# EAGLE library part DIP-BLACK-FEMALE-HEADER(2X5P-2.54) (library OPL-Connector)
320030088
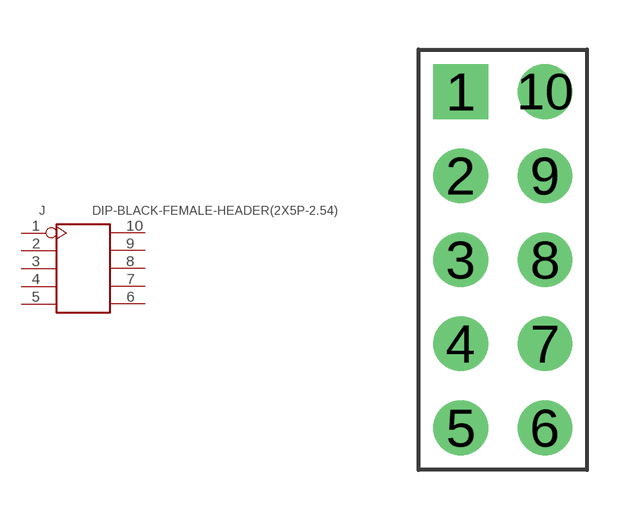
[diagram p61: symbol with the pads of H2X5-2.54; footprint H2X5-2.54]

Designator prefix J

## DIP-BLACK-FEMALE-HEADER(2X5P-2.54) (MPN: F185-1210A0BSYA1)  [H2X5-2.54]
1  1
2  2
3  3
4  4
5  5
6  6
7  7
8  8
9  9
10  10

## Footprint H2X5-2.54 (pad centres in mm)
drill 0.889 pad 1.651 square: 1 -1.27,5.08
drill 0.889 pad 1.651: 2 -1.27,2.54; 3 -1.27,0; 4 -1.27,-2.54; 5 -1.27,-5.08; 6 1.27,-5.08; 7 1.27,-2.54; 8 1.27,0; 9 1.27,2.54; 10 1.27,5.08